# Altium schematic symbol library SKY13370-374LF.SchLib: 1 symbol
Pins are listed as number, name and electrical type; pins without a type are passive.

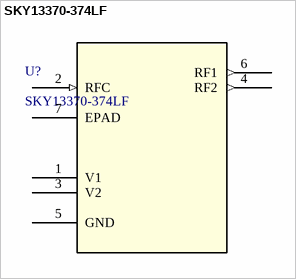
[diagram p0: symbol SKY13370-374LF]

## SKY13370-374LF
designator U?
Description; Manufacturer_Name: Skyworks; Copyright: Copyright (C) 2026 Ultra Librarian. All rights reserved.; Manufacturer_Part_Number: SKY13370-374LF; RefDes: RefDes; Type: Type
footprint SKY13370-374LF_SKY
pins: 1 V1 (power), 2 RFC (in), 3 V2 (power), 4 RF2 (out), 5 GND (power), 6 RF1 (out), 7 EPAD